# EAGLE library part ADSP-BF531 (library ADSP-BF531)
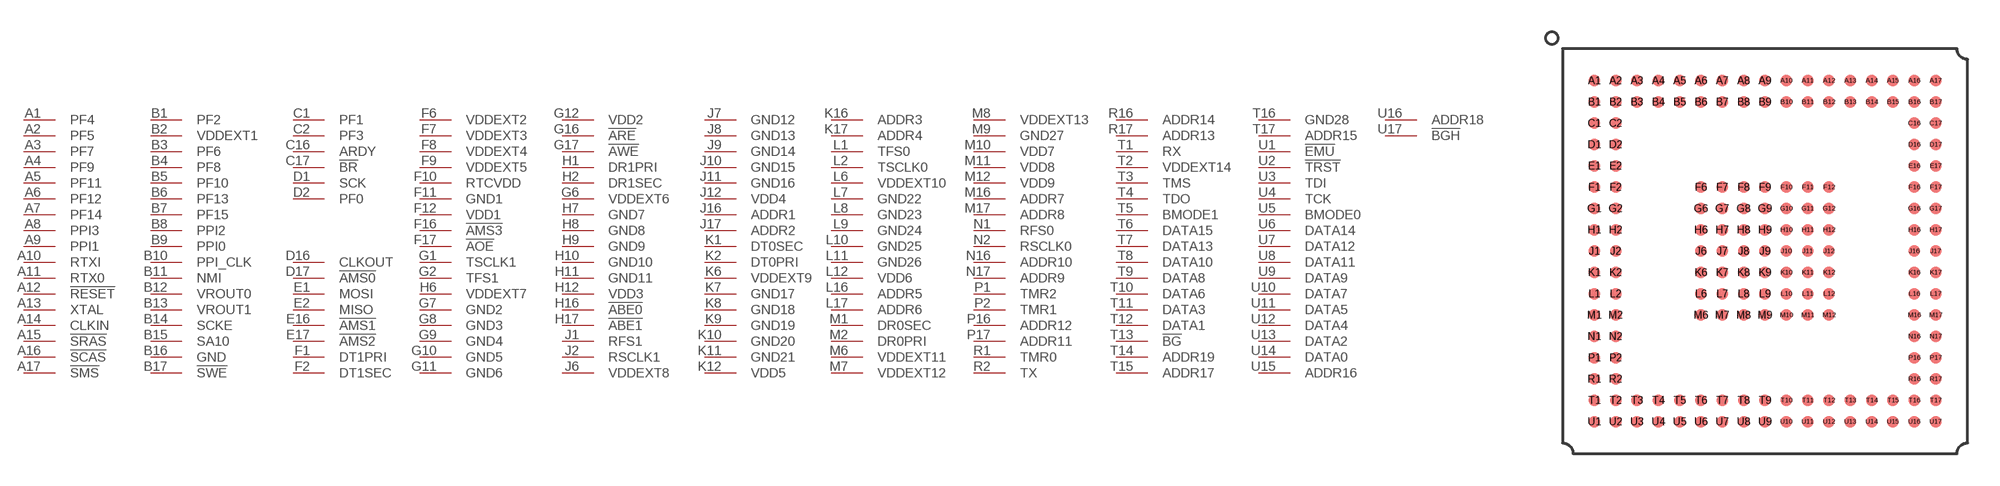
[diagram p0: symbol with the pads of 169PBGA; footprint 169PBGA]

Designator prefix -

## ADSP-BF531  [169PBGA]
A1  PF4
A2  PF5
A3  PF7
A4  PF9
A5  PF11
A6  PF12
A7  PF14
A8  PPI3
A9  PPI1
A10  RTXI
A11  RTX0
A12  !RESET
A13  XTAL
A14  CLKIN
A15  !SRAS
A16  !SCAS
A17  !SMS
B1  PF2
B2  VDDEXT1
B3  PF6
B4  PF8
B5  PF10
B6  PF13
B7  PF15
B8  PPI2
B9  PPI0
B10  PPI_CLK
B11  NMI
B12  VROUT0
B13  VROUT1
B14  SCKE
B15  SA10
B16  GND
B17  !SWE
C1  PF1
C2  PF3
C16  ARDY
C17  !BR
D1  SCK
D2  PF0
D16  CLKOUT
D17  !AMS0
E1  MOSI
E2  MISO
E16  !AMS1
E17  !AMS2
F1  DT1PRI
F2  DT1SEC
F6  VDDEXT2
F7  VDDEXT3
F8  VDDEXT4
F9  VDDEXT5
F10  RTCVDD
F11  GND1
F12  VDD1
F16  !AMS3
F17  !AOE
G1  TSCLK1
G2  TFS1
G6  VDDEXT6
G7  GND2
G8  GND3
G9  GND4
G10  GND5
G11  GND6
G12  VDD2
G16  !ARE
G17  !AWE
H1  DR1PRI
H2  DR1SEC
H6  VDDEXT7
H7  GND7
H8  GND8
H9  GND9
H10  GND10
H11  GND11
H12  VDD3
H16  !ABE0
H17  !ABE1
J1  RFS1
J2  RSCLK1
J6  VDDEXT8
J7  GND12
J8  GND13
J9  GND14
J10  GND15
J11  GND16
J12  VDD4
J16  ADDR1
J17  ADDR2
K1  DT0SEC
K2  DT0PRI
K6  VDDEXT9
K7  GND17
K8  GND18
K9  GND19
K10  GND20
K11  GND21
K12  VDD5
K16  ADDR3
K17  ADDR4
L1  TFS0
L2  TSCLK0
L6  VDDEXT10
L7  GND22
L8  GND23
L9  GND24
L10  GND25
L11  GND26
L12  VDD6
L16  ADDR5
L17  ADDR6
M1  DR0SEC
M2  DR0PRI
M6  VDDEXT11
M7  VDDEXT12
M8  VDDEXT13
M9  GND27
M10  VDD7
M11  VDD8
M12  VDD9
M16  ADDR7
M17  ADDR8
N1  RFS0
N2  RSCLK0
N16  ADDR10
N17  ADDR9
P1  TMR2
P2  TMR1
P16  ADDR12
P17  ADDR11
R1  TMR0
R2  TX
R16  ADDR14
R17  ADDR13
T1  RX
T2  VDDEXT14
T3  TMS
T4  TDO
T5  BMODE1
T6  DATA15
T7  DATA13
T8  DATA10
T9  DATA8
T10  DATA6
T11  DATA3
T12  DATA1
T13  !BG
T14  ADDR19
T15  ADDR17
T16  GND28
T17  ADDR15
U1  !EMU
U2  !TRST
U3  TDI
U4  TCK
U5  BMODE0
U6  DATA14
U7  DATA12
U8  DATA11
U9  DATA9
U10  DATA7
U11  DATA5
U12  DATA4
U13  DATA2
U14  DATA0
U15  ADDR16
U16  ADDR18
U17  !BGH

## Footprint 169PBGA (pad centres in mm)
smd 0.54 x 0.54: A1 -8,8; A2 -7,8; A3 -6,8; A4 -5,8; A5 -4,8; A6 -3,8; A7 -2,8; A8 -1,8; A9 0,8; A10 1,8; A11 2,8; A12 3,8; A13 4,8; A14 5,8; A15 6,8; A16 7,8; A17 8,8; B1 -8,7; B2 -7,7; B3 -6,7; B4 -5,7; B5 -4,7; B6 -3,7; B7 -2,7; B8 -1,7; B9 0,7; B10 1,7; B11 2,7; B12 3,7; B13 4,7; B14 5,7; B15 6,7; B16 7,7; B17 8,7; C1 -8,6; C2 -7,6; C16 7,6; C17 8,6; D1 -8,5; D2 -7,5; D16 7,5; D17 8,5; E1 -8,4; E2 -7,4; E16 7,4; E17 8,4; F1 -8,3; F2 -7,3; F6 -3,3; F7 -2,3; F8 -1,3; F9 0,3; F10 1,3; F11 2,3; F12 3,3; F16 7,3; F17 8,3; G1 -8,2; G2 -7,2; G6 -3,2; G7 -2,2; G8 -1,2; G9 0,2; G10 1,2; G11 2,2; G12 3,2; G16 7,2; G17 8,2; H1 -8,1; H2 -7,1; H6 -3,1; H7 -2,1; H8 -1,1; H9 0,1; H10 1,1; H11 2,1; H12 3,1; H16 7,1; H17 8,1; J1 -8,0; J2 -7,0; J6 -3,0; J7 -2,0; J8 -1,0; J9 0,0; J10 1,0; J11 2,0; J12 3,0; J16 7,0; J17 8,0; K1 -8,-1; K2 -7,-1; K6 -3,-1; K7 -2,-1; K8 -1,-1; K9 0,-1; K10 1,-1; K11 2,-1; K12 3,-1; K16 7,-1; K17 8,-1; L1 -8,-2; L2 -7,-2; L6 -3,-2; L7 -2,-2; L8 -1,-2; L9 0,-2; L10 1,-2; L11 2,-2; L12 3,-2; L16 7,-2; L17 8,-2; M1 -8,-3; M2 -7,-3; M6 -3,-3; M7 -2,-3; M8 -1,-3; M9 0,-3; M10 1,-3; M11 2,-3; M12 3,-3; M16 7,-3; M17 8,-3; N1 -8,-4; N2 -7,-4; N16 7,-4; N17 8,-4; P1 -8,-5; P2 -7,-5; P16 7,-5; P17 8,-5; R1 -8,-6; R2 -7,-6; R16 7,-6; R17 8,-6; T1 -8,-7; T2 -7,-7; T3 -6,-7; T4 -5,-7; T5 -4,-7; T6 -3,-7; T7 -2,-7; T8 -1,-7; T9 0,-7; T10 1,-7; T11 2,-7; T12 3,-7; T13 4,-7; T14 5,-7; T15 6,-7; T16 7,-7; T17 8,-7; U1 -8,-8; U2 -7,-8; U3 -6,-8; U4 -5,-8; U5 -4,-8; U6 -3,-8; U7 -2,-8; U8 -1,-8; U9 0,-8; U10 1,-8; U11 2,-8; U12 3,-8; U13 4,-8; U14 5,-8; U15 6,-8; U16 7,-8; U17 8,-8